# Altium integrated library RF Micro RF and IF Demodulator.IntLib: 6 symbols
Pins are listed as number, name and electrical type; pins without a type are passive.

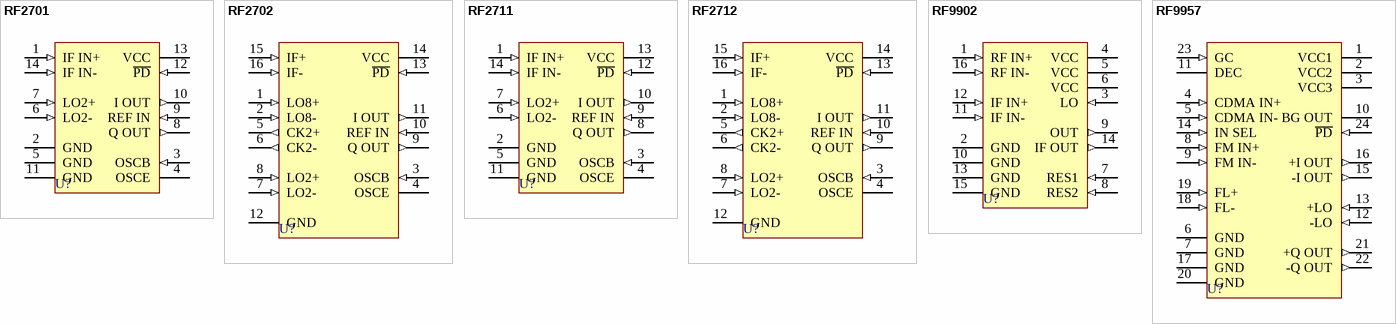
[diagram p0: symbols RF2701 to RF9957]

## RF2701
designator U?
Quadrature Demodulator; Published: 8-Jun-2000; LatestRevisionDate: 13-Apr-2006; LatestRevisionNote: IPC-7351 Footprint Added.; DatasheetVersion: Apr-1997; PackageVersion: 1997; PackageReference: SOP-14; Publisher: Altium Limited; PackageDescription: 14-Pin Small Outline Integrated Circuit 1.27 mm Pitch; Code_IPC: SOIC127P600-14; ComponentLink1Description: Manufacturer Link; ComponentLink1URL: http://www.rfmd.com/
footprint SOP-14_N (SOIC, 14-Leads, Body 8.7x3.9mm, Pitch 1.27mm, IPC Medium Density)
footprint SOP-14_L (SOIC, 14-Leads, Body 8.7x3.9mm, Pitch 1.27mm, IPC High Density)
footprint SOP-14_M (SOIC, 14-Leads, Body 8.7x3.9mm, Pitch 1.27mm, IPC Low Density)
pins: 1 IF IN+ (in), 2 GND (power), 3 OSCB (in), 4 OSCE (oe), 5 GND (power), 6 LO2- (in), 7 LO2+ (in), 8 Q OUT (out), 9 REF IN (in), 10 I OUT (out), 11 GND (power), 12 ~{PD} (in), 13 VCC (power), 14 IF IN- (in)

## RF2702
designator U?
Quadrature Demodulator; Published: 8-Jun-2000; LatestRevisionDate: 13-Apr-2006; LatestRevisionNote: IPC-7351 Footprint Added.; DatasheetVersion: Apr-1997; PackageVersion: 1997; PackageReference: SOP-16; Publisher: Altium Limited; PackageDescription: 16-Pin Small Outline Integrated Circuit 1.27 mm Pitch; Code_IPC: SOIC127P600-16; ComponentLink1Description: Manufacturer Link; ComponentLink1URL: http://www.rfmd.com/
footprint SOP-16_N (SOIC, 16-Leads, Body 9.9x3.9mm, Pitch 1.27mm, IPC Medium Density)
footprint SOP-16_L (SOIC, 16-Leads, Body 9.9x3.9mm, Pitch 1.27mm, IPC High Density)
footprint SOP-16_M (SOIC, 16-Leads, Body 9.9x3.9mm, Pitch 1.27mm, IPC Low Density)
pins: 1 LO8+ (in), 2 LO8- (in), 3 OSCB (in), 4 OSCE (oe), 5 CK2+ (out), 6 CK2- (out), 7 LO2- (in), 8 LO2+ (in), 9 Q OUT (out), 10 REF IN (in), 11 I OUT (out), 12 GND (power), 13 ~{PD} (in), 14 VCC (power), 15 IF+ (in), 16 IF- (in)

## RF2711
designator U?
Quadrature Demodulator; Published: 8-Jun-2000; LatestRevisionDate: 13-Apr-2006; LatestRevisionNote: IPC-7351 Footprint Added.; DatasheetVersion: Apr-1997; PackageVersion: 1997; PackageReference: SOP-14; Publisher: Altium Limited; PackageDescription: 14-Pin Small Outline Integrated Circuit 1.27 mm Pitch; Code_IPC: SOIC127P600-14; ComponentLink1Description: Manufacturer Link; ComponentLink1URL: http://www.rfmd.com/
footprint SOP-14_N (SOIC, 14-Leads, Body 8.7x3.9mm, Pitch 1.27mm, IPC Medium Density)
footprint SOP-14_L (SOIC, 14-Leads, Body 8.7x3.9mm, Pitch 1.27mm, IPC High Density)
footprint SOP-14_M (SOIC, 14-Leads, Body 8.7x3.9mm, Pitch 1.27mm, IPC Low Density)
pins: 1 IF IN+ (in), 2 GND (power), 3 OSCB (in), 4 OSCE (oe), 5 GND (power), 6 LO2- (in), 7 LO2+ (in), 8 Q OUT (out), 9 REF IN (in), 10 I OUT (out), 11 GND (power), 12 ~{PD} (in), 13 VCC (power), 14 IF IN- (in)

## RF2712
designator U?
Quadrature Demodulator; Published: 8-Jun-2000; LatestRevisionDate: 13-Apr-2006; LatestRevisionNote: IPC-7351 Footprint Added.; DatasheetVersion: Apr-1997; PackageVersion: 1997; PackageReference: SOP-16; Publisher: Altium Limited; PackageDescription: 16-Pin Small Outline Integrated Circuit 1.27 mm Pitch; Code_IPC: SOIC127P600-16; ComponentLink1Description: Manufacturer Link; ComponentLink1URL: http://www.rfmd.com/
footprint SOP-16_N (SOIC, 16-Leads, Body 9.9x3.9mm, Pitch 1.27mm, IPC Medium Density)
footprint SOP-16_L (SOIC, 16-Leads, Body 9.9x3.9mm, Pitch 1.27mm, IPC High Density)
footprint SOP-16_M (SOIC, 16-Leads, Body 9.9x3.9mm, Pitch 1.27mm, IPC Low Density)
pins: 1 LO8+ (in), 2 LO8- (in), 3 OSCB (in), 4 OSCE (oe), 5 CK2+ (out), 6 CK2- (out), 7 LO2- (in), 8 LO2+ (in), 9 Q OUT (out), 10 REF IN (in), 11 I OUT (out), 12 GND (power), 13 ~{PD} (in), 14 VCC (power), 15 IF+ (in), 16 IF- (in)

## RF9902
designator U?
FSK Receiver; Published: 8-Jun-2000; LatestRevisionDate: 13-Apr-2006; LatestRevisionNote: IPC-7351 Footprint Added.; DatasheetVersion: Apr-1997; PackageVersion: 1997; PackageReference: SOP-16; Publisher: Altium Limited; PackageDescription: 16-Pin Small Outline Integrated Circuit 1.27 mm Pitch; Code_IPC: SOIC127P600-16; ComponentLink1Description: Manufacturer Link; ComponentLink1URL: http://www.rfmd.com/
footprint SOP-16_N (SOIC, 16-Leads, Body 9.9x3.9mm, Pitch 1.27mm, IPC Medium Density)
footprint SOP-16_L (SOIC, 16-Leads, Body 9.9x3.9mm, Pitch 1.27mm, IPC High Density)
footprint SOP-16_M (SOIC, 16-Leads, Body 9.9x3.9mm, Pitch 1.27mm, IPC Low Density)
pins: 1 RF IN+ (in), 2 GND (power), 3 LO (in), 4 VCC (power), 5 VCC (power), 6 VCC (power), 7 RES1 (in), 8 RES2 (in), 9 OUT (out), 10 GND (power), 11 IF IN- (in), 12 IF IN+ (in), 13 GND (power), 14 IF OUT (out), 15 GND (power), 16 RF IN- (in)

## RF9957
designator U?
CDMA/FM Receive AGC and Demodulator; ComponentAvailability: Not for New Design; Published: 8-Jun-2000; LatestRevisionDate: 17-Jul-2002; LatestRevisionNote: Re-released for DXP Platform.; DatasheetVersion: Rev. C12; PackageVersion: 1997; PackageReference: SSOP-24; Publisher: Altium Limited; PackageDescription: SSOP; 24 Leads; Body Width 3.9 mm; Pitch 0.64 mm; ComponentLink1Description: Manufacturer Link; ComponentLink1URL: http://www.rfmd.com/; ComponentLink2Description: Datasheet; ComponentLink2URL: http://www.rfmd.com/DataBooks/db97/9957.pdf
footprint SSOP-24 (SSOP; 24 Leads; Body Width 3.9 mm; Pitch 0.64 mm)
pins: 1 VCC1 (power), 2 VCC2 (power), 3 VCC3 (power), 4 CDMA IN+ (in), 5 CDMA IN- (in), 6 GND (power), 7 GND (power), 8 FM IN+ (in), 9 FM IN- (in), 10 BG OUT, 11 DEC, 12 -LO (in), 13 +LO (in), 14 IN SEL (in), 15 -I OUT (out), 16 +I OUT (out), 17 GND (power), 18 FL- (in), 19 FL+ (in), 20 GND (power), 21 +Q OUT (out), 22 -Q OUT (out), 23 GC (in), 24 ~{PD} (in)